# Altium integrated library INTERFACE-FT232RL_SSOP28_.IntLib: 1 symbol
Pins are listed as number, name and electrical type; pins without a type are passive.

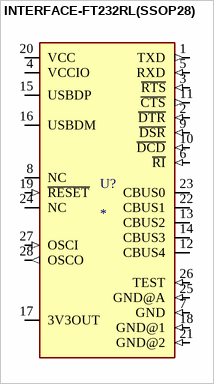
[diagram p0: symbol INTERFACE-FT232RL(SSOP28)]

## INTERFACE-FT232RL(SSOP28)
designator U?
USB Bridge, USB to UART USB 2.0 UART Interface 28-SSOP; MF: FTDI, Future; MP: FT232RL; SnapEDA_Link: https://www.snapeda.com/parts/FT232RL/FTDI%252C+Future+Technology+Devices+International+Ltd/view-part/?ref=snap; Package: SSOP-28 FTDI; Value: *; Check_prices: https://www.snapeda.com/parts/FT232RL/FTDI%252C+Future+Technology+Devices+International+Ltd/view-part/?ref=eda
footprint SSOP28-0.65-10.2X5.2MM
pins: 1 TXD (out), 2 ~{DTR} (in), 3 ~{RTS} (in), 4 VCCIO (power), 5 RXD (in), 6 ~{RI} (in), 7 GND (in), 8 NC, 9 ~{DSR} (in), 10 ~{DCD} (in), 11 ~{CTS} (out), 12 CBUS4 (io), 13 CBUS2 (io), 14 CBUS3 (io), 15 USBDP (io), 16 USBDM (io), 17 3V3OUT (power), 18 GND@1 (in), 19 ~{RESET} (in), 20 VCC (power), 21 GND@2 (in), 22 CBUS1 (io), 23 CBUS0 (io), 24 NC, 25 GND@A (in), 26 TEST (in), 27 OSCI (in), 28 OSCO (out)